# Altium schematic symbol library TPS5450DDAR.Schlib: 1 symbol
Pins are listed as number, name and electrical type; pins without a type are passive.

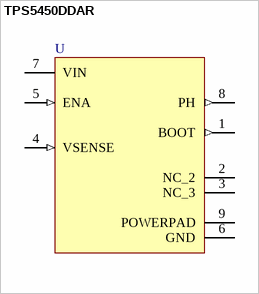
[diagram p0: symbol TPS5450DDAR]

## TPS5450DDAR
designator U
5.5V to 36V Input, 5A, 500kHz Step Down Converter 8-SO PowerPAD -40 to 125
pins: 1 BOOT (out), 2 NC_2, 3 NC_3, 4 VSENSE (in), 5 ENA (in), 6 GND (power), 7 VIN (power), 8 PH (out), 9 POWERPAD (power)